# Altium footprint library RICHTEK_U-Type_12HL_QFN3x3_FC.PcbLib: 1 footprints
Each footprint in its own frame and in the unit in brackets; x right, y up, seen from the top. Pads: shape width x height; smd on the part's side, far side on the other; paste and mask are expansions set on the pad; w line width, h text height; cw(c..) or ccw(c..) is an arc to the next point about the centre after c.
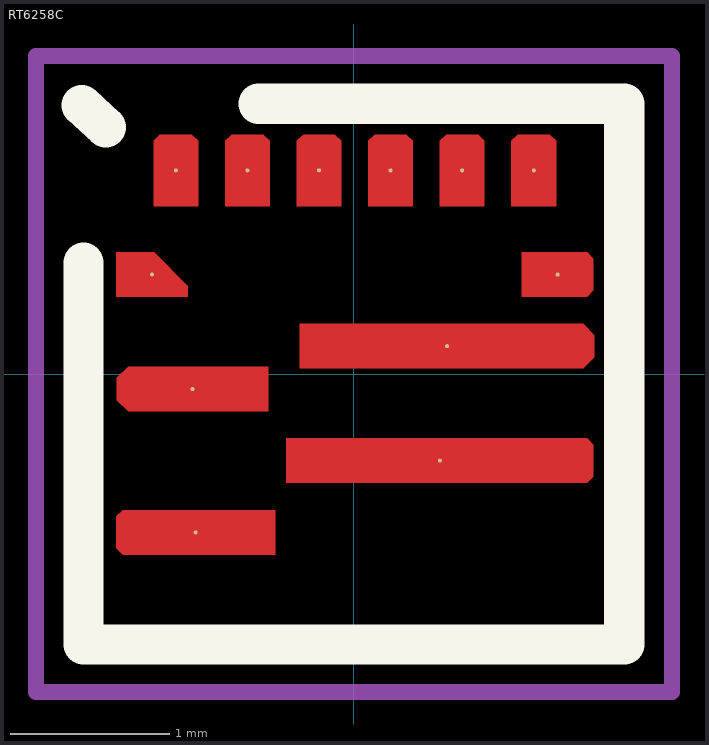
[diagram p0: the footprint, top view; thin cyan lines are the x and y axes]

## RT6258C [mil]
pads (12):
  round 1 / inner round 0 / far side oct 0x0 all layers, no hole mask+2.36: 1(-50,24.61) 3(-39.17,-39.17) 4(21.26,-21.46) 6(50.39,24.61)
  round 1 / inner round 0 / far side oct 0x0 all layers, no hole mask-99999: 2(-39.96,-3.74) 5(23.03,6.89)
  round 1 / inner round 0 / far side round 0 all layers, no hole mask+1.5: 7(44.49,50.39)
  round 1 / inner round 0 / far side oct 0x0 all layers, no hole mask+1.5: 8(26.77,50.39) 9(9.06,50.39) 10(-8.66,50.39) 11(-26.38,50.39) 12(-44.09,50.39)
Top Layer:
  region: -55.91,1.77 -58.66,-0.98 -58.66,-6.5 -55.91,-9.25 -21.26,-9.25 -21.26,1.77
  region: -19.49,-44.69 -19.49,-33.66 -57.28,-33.66 -58.86,-35.24 -58.86,-43.11 -57.28,-44.69
  region: -49.49,30.12 -41.14,21.77 -41.14,19.09 -58.86,19.09 -58.86,30.12
  region: 41.54,30.12 41.54,19.09 57.68,19.09 59.25,20.67 59.25,28.54 57.68,30.12
  region: 38.98,41.54 50,41.54 50,57.68 48.43,59.25 40.55,59.25 38.98,57.68
  region: 21.26,41.54 32.28,41.54 32.28,57.68 30.71,59.25 22.83,59.25 21.26,57.68
  region: 3.54,41.54 14.57,41.54 14.57,57.68 12.99,59.25 5.12,59.25 3.54,57.68
  region: -14.17,41.54 -3.15,41.54 -3.15,57.68 -4.72,59.25 -12.6,59.25 -14.17,57.68
  region: -31.89,41.54 -20.87,41.54 -20.87,57.68 -22.44,59.25 -30.31,59.25 -31.89,57.68
  region: -49.61,41.54 -38.58,41.54 -38.58,57.68 -40.16,59.25 -48.03,59.25 -49.61,57.68
  region: -16.73,-15.94 -16.73,-26.97 57.68,-26.97 59.25,-25.39 59.25,-17.52 57.68,-15.94
  region: 56.69,1.38 59.45,4.13 59.45,9.65 56.69,12.4 -13.39,12.4 -13.39,1.38
Top Overlay:
  lines w10: -67.32,66.54 -61.42,61.02 ; -66.93,27.56 -66.93,-66.93 66.93,-66.93 66.93,66.93 -23.62,66.93
Top Solder:
  region: -60.24,-11.61 -60.24,4.13 -19.69,4.13 -19.69,-11.61
  region: -16.34,-0.98 -16.34,14.76 62.4,14.76 62.4,-0.98
Bottom Solder:
  circle w0: c-39.96,-3.74 r0
  circle w0: c23.03,6.89 r0
Mechanical 15:
  lines w3.94: -78.74,-78.74 -78.74,78.74 78.74,78.74 78.74,-78.74 -78.74,-78.74
3D body "RT6258CGQUF.stp": height 19.68, standoff -1.97, extent -59.06,-59.06 59.06,59.06